# Altium schematic symbol library TLC59283DBQ.SchLib: 2 symbols
Pins are listed as number, name and electrical type; pins without a type are passive.

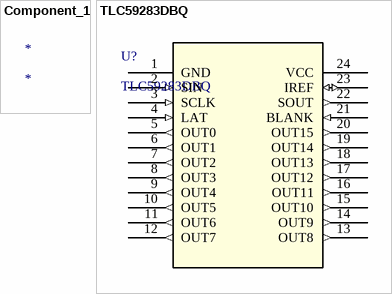
[diagram p0: symbols Component_1 to TLC59283DBQ]

## Component_1
designator *

## TLC59283DBQ
designator U?
No Description Available; Mfr_Name: Texas Instruments; Copyright: Copyright (C) 2022 Ultra Librarian. All rights reserved.; Manufacturer_Part_Number: TLC59283DBQ; Digi-Key_Part_Number_1: TLC59283DBQ-ND; Digi-Key_Part_Number_2: 2156-TLC59283DBQ-ND; RefDes: RefDes; Type: DEV
footprint DBQ24_TEX
pins: 1 GND (power), 2 SIN (in), 3 SCLK (in), 4 LAT (in), 5 OUT0 (out), 6 OUT1 (out), 7 OUT2 (out), 8 OUT3 (out), 9 OUT4 (out), 10 OUT5 (out), 11 OUT6 (out), 12 OUT7 (out), 13 OUT8 (out), 14 OUT9 (out), 15 OUT10 (out), 16 OUT11 (out), 17 OUT12 (out), 18 OUT13 (out), 19 OUT14 (out), 20 OUT15 (out), 21 BLANK (in), 22 SOUT (out), 23 IREF (io), 24 VCC (power)